# Altium schematic symbol library SS8050-G.Schlib: 1 symbol
Pins are listed as number, name and electrical type; pins without a type are passive.

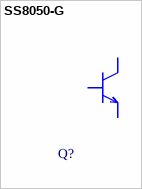
[diagram p0: symbol SS8050-G]

## SS8050-G
designator Q?
25V 1A NPN
pins: 1 B, 2 E, 3 C